# Altium footprint library Wampler.PcbLib: 50 footprints (part 1 of 4)
Each footprint in its own frame and in the unit in brackets; x right, y up, seen from the top. Pads: shape width x height; smd on the part's side, far side on the other; paste and mask are expansions set on the pad; w line width, h text height; cw(c..) or ccw(c..) is an arc to the next point about the centre after c.
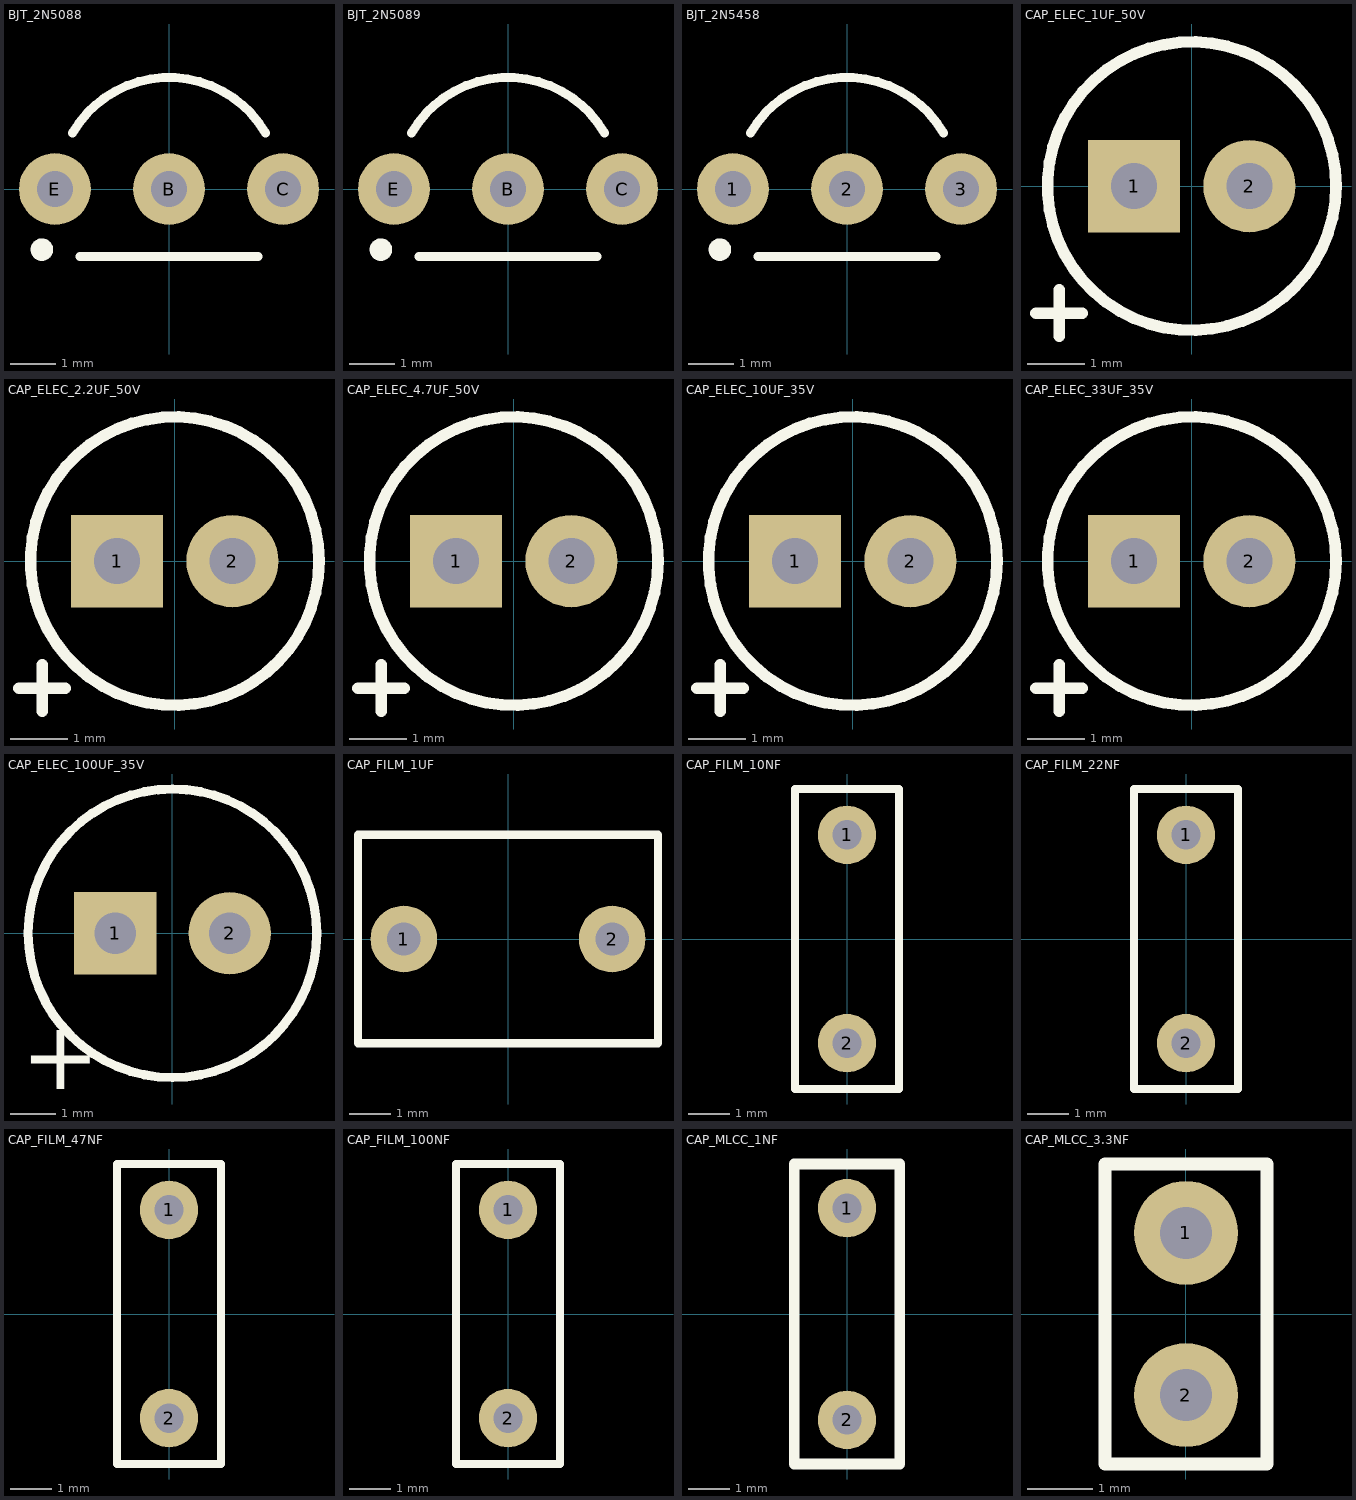
[diagram p0: the footprints below, top view; thin cyan lines are the x and y axes]

## BJT_2N5088 [mm]
pads (3):
  round 1.6 hole 0.8: B(0,0) C(2.54,0) E(-2.54,0)
Top Overlay:
  circle w0.25: c-2.83,-1.35 r0.125
  lines w0.2: -2.151,1.242 cw(c0,0) 2.151,1.242 ; -1.98,-1.5 1.98,-1.5
3D body "TO-92-Form_A.STP": height 8.84, standoff -3, extent -2.78,-1.52 2.78,2.67

## BJT_2N5089 [mm]
pads (3):
  round 1.6 hole 0.8: B(0,0) C(2.54,0) E(-2.54,0)
Top Overlay:
  circle w0.25: c-2.83,-1.35 r0.125
  lines w0.2: -2.151,1.242 cw(c0,0) 2.151,1.242 ; -1.98,-1.5 1.98,-1.5
3D body "TO-92-Form_A.STP": height 8.84, standoff -3, extent -2.78,-1.52 2.78,2.67

## BJT_2N5458 [mm]
pads (3):
  round 1.6 hole 0.8: 1(-2.54,0) 2(0,0) 3(2.54,0)
Top Overlay:
  circle w0.25: c-2.83,-1.35 r0.125
  lines w0.2: -2.151,1.242 cw(c0,0) 2.151,1.242 ; -1.98,-1.5 1.98,-1.5
3D body "TO-92-Form_A.STP": height 8.84, standoff -3, extent -2.78,-1.52 2.78,2.67

## CAP_ELEC_1UF_50V [mm] "Capacitor, Electrolytic, Radial; Body 5 x 11 mm (Dia.xH typ); Pin Spacing 2 mm (typ)"
height 12
pads (2):
  rect 1.6x1.6 hole 0.8: 1(-1,0)
  round 1.6 hole 0.8: 2(1,0)
Top Overlay:
  circle w0.2: c0,0 r2.5
  lines w0.2: -2.7,-2.2 -1.9,-2.2 ; -2.3,-2.6 -2.3,-1.8
3D body "5_11.STEP": height 11, standoff -2.9, extent -2.5,-2.5 2.501,2.5

## CAP_ELEC_2.2UF_50V [mm] "Capacitor, Electrolytic, Radial; Body 5 x 11 mm (Dia.xH typ); Pin Spacing 2 mm (typ)"
height 12
pads (2):
  rect 1.6x1.6 hole 0.8: 1(-1,0)
  round 1.6 hole 0.8: 2(1,0)
Top Overlay:
  circle w0.2: c0,0 r2.5
  lines w0.2: -2.7,-2.2 -1.9,-2.2 ; -2.3,-2.6 -2.3,-1.8
3D body "5_11.STEP": height 11, standoff -2.9, extent -2.5,-2.5 2.501,2.5

## CAP_ELEC_4.7UF_50V [mm] "Capacitor, Electrolytic, Radial; Body 5 x 11 mm (Dia.xH typ); Pin Spacing 2 mm (typ)"
height 12
pads (2):
  rect 1.6x1.6 hole 0.8: 1(-1,0)
  round 1.6 hole 0.8: 2(1,0)
Top Overlay:
  circle w0.2: c0,0 r2.5
  lines w0.2: -2.7,-2.2 -1.9,-2.2 ; -2.3,-2.6 -2.3,-1.8
3D body "5_11.STEP": height 11, standoff -2.9, extent -2.5,-2.5 2.501,2.5

## CAP_ELEC_10UF_35V [mm] "Capacitor, Electrolytic, Radial; Body 5 x 11 mm (Dia.xH typ); Pin Spacing 2 mm (typ)"
height 12
pads (2):
  rect 1.6x1.6 hole 0.8: 1(-1,0)
  round 1.6 hole 0.8: 2(1,0)
Top Overlay:
  circle w0.2: c0,0 r2.5
  lines w0.2: -2.7,-2.2 -1.9,-2.2 ; -2.3,-2.6 -2.3,-1.8
3D body "5_11.STEP": height 11, standoff -2.9, extent -2.5,-2.5 2.501,2.5

## CAP_ELEC_33UF_35V [mm] "Capacitor, Electrolytic, Radial; Body 5 x 11 mm (Dia.xH typ); Pin Spacing 2 mm (typ)"
height 12
pads (2):
  rect 1.6x1.6 hole 0.8: 1(-1,0)
  round 1.6 hole 0.8: 2(1,0)
Top Overlay:
  circle w0.2: c0,0 r2.5
  lines w0.2: -2.7,-2.2 -1.9,-2.2 ; -2.3,-2.6 -2.3,-1.8
3D body "5_11.STEP": height 11, standoff -2.9, extent -2.5,-2.5 2.501,2.5

## CAP_ELEC_100UF_35V [mm] "Capacitor, Electrolytic, Radial; Body 6.3 x 11 mm (Dia.xH typ); Pin Spacing 2.5 mm (typ)"
height 10.8
pads (2):
  rect 1.8x1.8 hole 0.9: 1(-1.25,0)
  round 1.8 hole 0.9: 2(1.25,0)
Top Overlay:
  circle w0.2: c0,0 r3.15
  text "+" at -3.3,-3.4 h1.5
3D body "CPR250-630x980.STEP": height 9.81, standoff -2.7, extent -3.15,-3.15 3.15,3.15

## CAP_FILM_1UF [mm]
pads (2):
  round 1.6 hole 0.8: 1(-2.5,0) 2(2.5,0)
Top Overlay:
  lines w0.2: -3.6,-2.5 -3.6,2.5 3.6,2.5 3.6,-2.5 -3.6,-2.5
3D body "FILM_RED_P500L720W500H1000PD50.step": height 10, standoff -6.2, extent -3.6,-2.5 3.6,2.5

## CAP_FILM_10NF [mm]
pads (2):
  round 1.4 hole 0.7: 1(0,2.5) 2(0,-2.5)
Top Overlay:
  lines w0.2: -1.25,-3.6 1.25,-3.6 1.25,3.6 -1.25,3.6 -1.25,-3.6
3D body "FILM_RED_P500L720W250H650PD50.step": height 6.6, standoff -6.1, extent -1.25,-3.6 1.25,3.6

## CAP_FILM_22NF [mm]
pads (2):
  round 1.4 hole 0.7: 1(0,2.5) 2(0,-2.5)
Top Overlay:
  lines w0.2: -1.25,-3.6 -1.25,3.6 1.25,3.6 1.25,-3.6 -1.25,-3.6
3D body "FILM_RED_P500L720W250H650PD50.step": height 6.6, standoff -6.1, extent -1.25,-3.6 1.25,3.6

## CAP_FILM_47NF [mm]
pads (2):
  round 1.4 hole 0.7: 1(0,2.5) 2(0,-2.5)
Top Overlay:
  lines w0.2: -1.25,-3.6 -1.25,3.6 1.25,3.6 1.25,-3.6 -1.25,-3.6
3D body "FILM_RED_P500L720W250H650PD50.step": height 6.6, standoff -6.1, extent -1.25,-3.6 1.25,3.6

## CAP_FILM_100NF [mm]
pads (2):
  round 1.4 hole 0.7: 1(0,2.5) 2(0,-2.5)
Top Overlay:
  lines w0.2: -1.25,-3.6 1.25,-3.6 1.25,3.6 -1.25,3.6 -1.25,-3.6
3D body "FILM_RED_P500L720W250H650PD50.step": height 6.6, standoff -6.1, extent -1.25,-3.6 1.25,3.6

## CAP_MLCC_1NF [mm]
pads (2):
  round 1.4 hole 0.7: 1(0,2.54) 2(0,-2.54)
Top Overlay:
  lines w0.254: -1.27,-3.6 1.27,-3.6 1.27,3.6 -1.27,3.6 -1.27,-3.6
3D body "C317C560J2G5TA.step": height 5.11, standoff -6.97, extent -1.27,-2.793 1.275,2.793

## CAP_MLCC_3.3NF [mm]
pads (2):
  round 1.6 hole 0.8: 1(0,1.25) 2(0,-1.25)
Top Overlay:
  lines w0.2: -1.25,-2.31 -1.25,2.31 1.25,2.31 1.25,-2.31 -1.25,-2.31
3D body "FG18C0G1H221JNT06.stp": height 5.64, standoff -5.04, extent -1.424,-2 1.445,2